# EAGLE library part TPS2375 (library misc)
IC CTRLR POE POWERED IEEE 8TSSOP
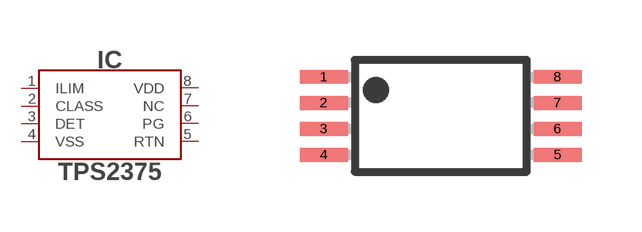
[diagram p74: symbol with the pads of TSSOP8; footprint TSSOP8]

Designator prefix IC

## TPS2375 (DIGIKEY#: 296-17903-5-ND; MANF: Texas Instruments; MANF#: TPS2375PW-1)  [TSSOP8]
1  ILIM
2  CLASS
3  DET
4  VSS
5  RTN
6  PG
7  NC
8  VDD

## Footprint TSSOP8 (pad centres in mm)
smd 1.2 x 0.35: 1 -2.925,0.975; 2 -2.925,0.325; 3 -2.925,-0.325; 4 -2.925,-0.975; 5 2.925,-0.975; 6 2.925,-0.325; 7 2.925,0.325; 8 2.925,0.975